# Altium footprint library XFDFN-10 (2.5x1).PcbLib: 1 footprints
Each footprint in its own frame and in the unit in brackets; x right, y up, seen from the top. Pads: shape width x height; smd on the part's side, far side on the other; paste and mask are expansions set on the pad; w line width, h text height; cw(c..) or ccw(c..) is an arc to the next point about the centre after c.
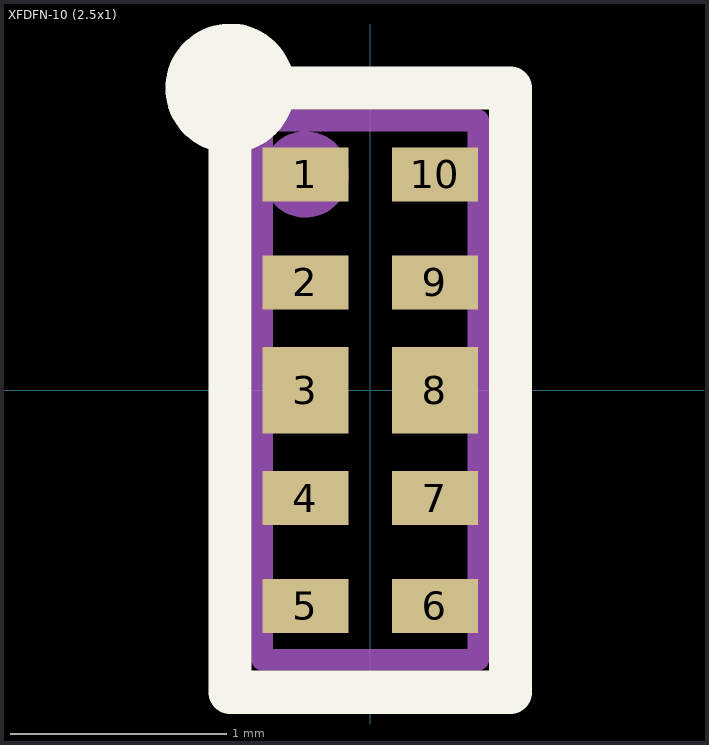
[diagram p0: the footprint, top view; thin cyan lines are the x and y axes]

## XFDFN-10 (2.5x1) [mm]
pads (10):
  rect 0.4x0.25 smd paste+0 mask+0.05: 1(-0.3,1) 2(-0.3,0.5) 4(-0.3,-0.5) 5(-0.3,-1) 6(0.3,-1) 7(0.3,-0.5) 9(0.3,0.5) 10(0.3,1)
  rect 0.4x0.4 smd paste+0 mask+0.05: 3(-0.3,0) 8(0.3,0)
Top Overlay:
  circle w0.3: c-0.65,1.4 r0.15
  lines w0.2: -0.65,-1.4 -0.65,1.4 0.65,1.4 0.65,-1.4 -0.65,-1.4
Top Assembly:
  circle w0.2: c-0.3,1 r0.1
  lines w0.1: -0.5,-1.25 -0.5,1.25 0.5,1.25 0.5,-1.25 -0.5,-1.25
  text "'.Designator'" at 0,0 h0.7
3D body "XFDFN-10 (2.5x1).stp": height 0.65, standoff 0, extent -0.5,-1.25 0.5,1.25